# Altium schematic symbol library SRP1245CC-1R5M.SchLib: 1 symbol
Pins are listed as number, name and electrical type; pins without a type are passive.

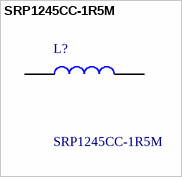
[diagram p0: symbol SRP1245CC-1R5M]

## SRP1245CC-1R5M
designator L?
Ind,13.5x12.5x4.8mm,1.5uH+/-20%,27A,shd; Manufacturer_Name: Bourns; Geometry.Height: 5mm; Mouser Part Number: 652-SRP1245CC-1R5M; Mouser Price/Stock: https://www.mouser.co.uk/ProductDetail/Bourns/SRP1245CC-1R5M?qs=1Kr7Jg1SGW995LB%2Fs%252BVjpg%3D%3D; Manufacturer_Part_Number: SRP1245CC-1R5M; Datasheet Link: https://www.bourns.com/docs/Product-Datasheets/SRP1245CC.pdf
footprint INDPM135125X500N
pins: 1, 2